# EAGLE library part CD4077B (library masterthesis)
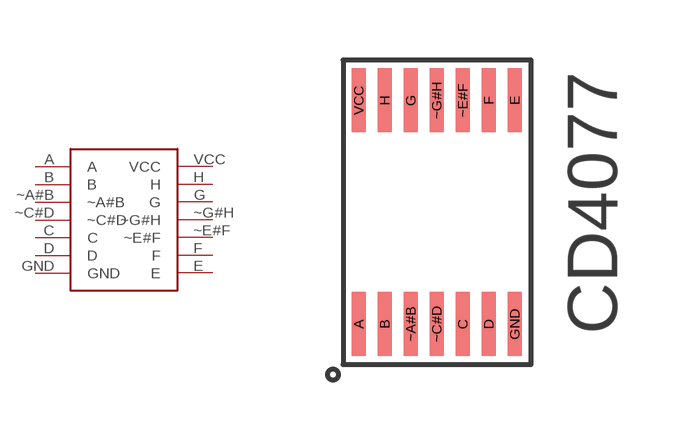
[diagram p2: symbol with the pads of TSSOP14; footprint TSSOP14]

Designator prefix -

## CD4077B  [TSSOP14]
A  A
B  B
C  C
D  D
E  E
F  F
G  G
GND  GND
H  H
VCC  VCC
~A#B  ~A#B
~C#D  ~C#D
~E#F  ~E#F
~G#H  ~G#H

## Footprint TSSOP14 (pad centres in mm)
smd 0.35 x 1.6: A -2.275,-2.8; B -1.625,-2.8; C 0.325,-2.8; D 0.975,-2.8; E 1.625,2.8; F 0.975,2.8; G -0.975,2.8; GND 1.625,-2.8; H -1.625,2.8; VCC -2.275,2.8; ~A#B -0.975,-2.8; ~C#D -0.325,-2.8; ~E#F 0.325,2.8; ~G#H -0.325,2.8